# Altium schematic symbol library Special.SchLib: 1 symbol
Pins are listed as number, name and electrical type; pins without a type are passive.

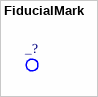
[diagram p0: symbol FiducialMark]

## FiducialMark
designator _?  (value not drawn)  (no BOM)
Fiducial mark
footprint FiducialRound1mm2mm
footprint FiducialRound1mm3mm